# Altium schematic symbol library SCH-MCU-WCH-CH548G-SOP16.SchLib: 1 symbol
Pins are listed as number, name and electrical type; pins without a type are passive.

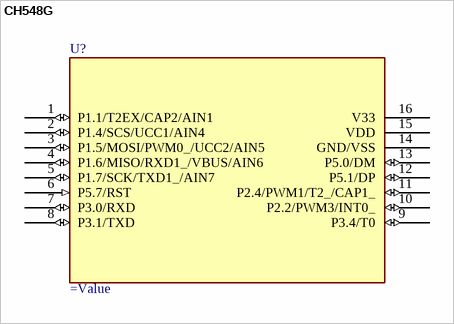
[diagram p0: symbol CH548G]

## CH548G
designator U?
pins: 1 P1.1/T2EX/CAP2/AIN1 (io), 2 P1.4/SCS/UCC1/AIN4 (io), 3 P1.5/MOSI/PWM0_/UCC2/AIN5 (io), 4 P1.6/MISO/RXD1_/VBUS/AIN6 (io), 5 P1.7/SCK/TXD1_/AIN7 (io), 6 P5.7/RST (in), 7 P3.0/RXD (io), 8 P3.1/TXD (io), 9 P3.4/T0 (io), 10 P2.2/PWM3/INT0_ (io), 11 P2.4/PWM1/T2_/CAP1_ (io), 12 P5.1/DP (io), 13 P5.0/DM (io), 14 GND/VSS (power), 15 VDD (power), 16 V33 (power)